# Altium footprint library MCU.PcbLib: 17 footprints (part 1 of 2)
Each footprint in its own frame and in the unit in brackets; x right, y up, seen from the top. Pads: shape width x height; smd on the part's side, far side on the other; paste and mask are expansions set on the pad; w line width, h text height; cw(c..) or ccw(c..) is an arc to the next point about the centre after c.
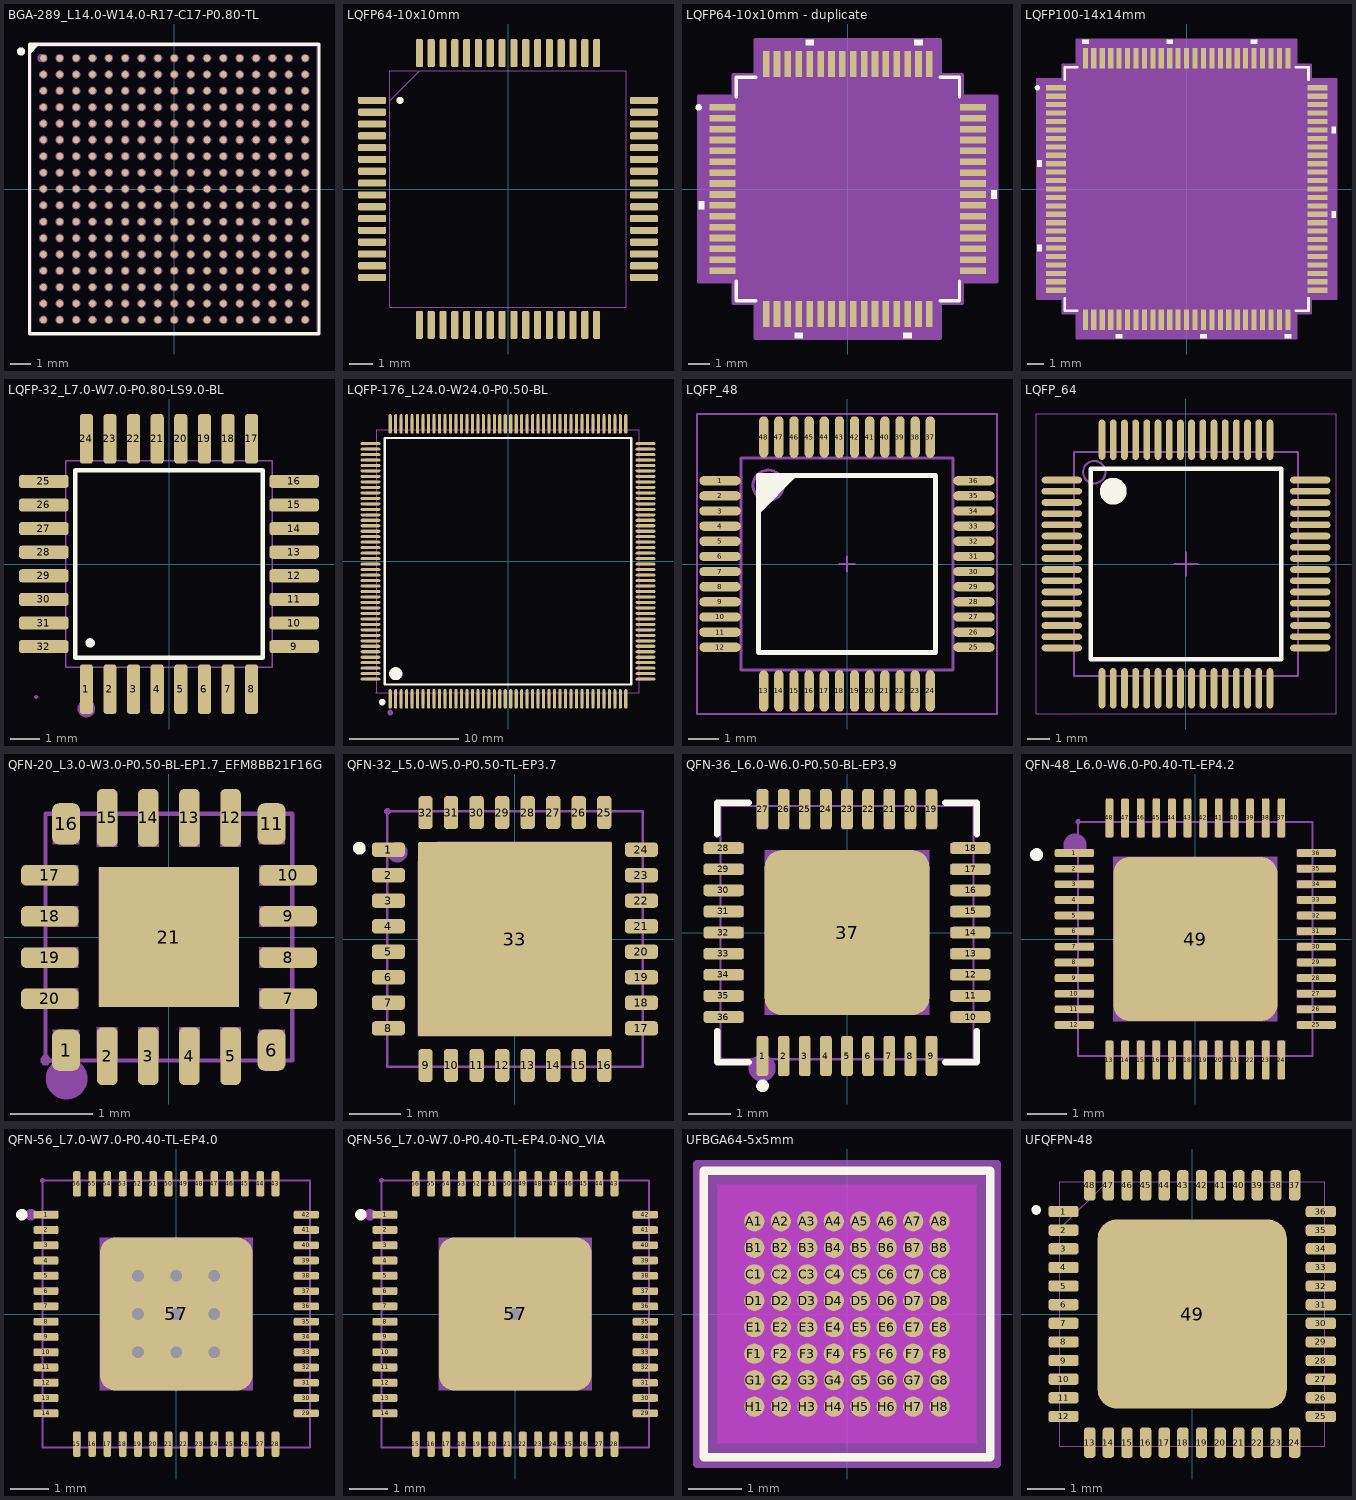
[diagram p0: the footprints below, top view; thin cyan lines are the x and y axes]

## BGA-289_L14.0-W14.0-R17-C17-P0.80-TL [mm]
pads (289):
  round 0.32 smd paste-100 mask+0.05: A1(-6.4,6.4) A2(-5.6,6.4) A3(-4.8,6.4) A4(-4,6.4) A5(-3.2,6.4) A6(-2.4,6.4) A7(-1.6,6.4) A8(-0.8,6.4) A9(0,6.4) A10(0.8,6.4) A11(1.6,6.4) A12(2.4,6.4) A13(3.2,6.4) A14(4,6.4) A15(4.8,6.4) A16(5.6,6.4) A17(6.4,6.4) B1(-6.4,5.6) B2(-5.6,5.6) B3(-4.8,5.6) B4(-4,5.6) B5(-3.2,5.6) B6(-2.4,5.6) B7(-1.6,5.6) B8(-0.8,5.6) B9(0,5.6) B10(0.8,5.6) B11(1.6,5.6) B12(2.4,5.6) B13(3.2,5.6) B14(4,5.6) B15(4.8,5.6) B16(5.6,5.6) B17(6.4,5.6) C1(-6.4,4.8) C2(-5.6,4.8) C3(-4.8,4.8) C4(-4,4.8) C5(-3.2,4.8) C6(-2.4,4.8) C7(-1.6,4.8) C8(-0.8,4.8) C9(0,4.8) C10(0.8,4.8) C11(1.6,4.8) C12(2.4,4.8) C13(3.2,4.8) C14(4,4.8) C15(4.8,4.8) C16(5.6,4.8) C17(6.4,4.8) D1(-6.4,4) D2(-5.6,4) D3(-4.8,4) D4(-4,4) D5(-3.2,4) D6(-2.4,4) D7(-1.6,4) D8(-0.8,4) D9(0,4) D10(0.8,4) D11(1.6,4) D12(2.4,4) D13(3.2,4) D14(4,4) D15(4.8,4) D16(5.6,4) D17(6.4,4) E1(-6.4,3.2) E2(-5.6,3.2) E3(-4.8,3.2) E4(-4,3.2) E5(-3.2,3.2) E6(-2.4,3.2) E7(-1.6,3.2) E8(-0.8,3.2) E9(0,3.2) E10(0.8,3.2) E11(1.6,3.2) E12(2.4,3.2) E13(3.2,3.2) E14(4,3.2) E15(4.8,3.2) E16(5.6,3.2) E17(6.4,3.2) F1(-6.4,2.4) F2(-5.6,2.4) F3(-4.8,2.4) F4(-4,2.4) F5(-3.2,2.4) F6(-2.4,2.4) F7(-1.6,2.4) F8(-0.8,2.4) F9(0,2.4) F10(0.8,2.4) F11(1.6,2.4) F12(2.4,2.4) F13(3.2,2.4) F14(4,2.4) F15(4.8,2.4) F16(5.6,2.4) F17(6.4,2.4) G1(-6.4,1.6) G2(-5.6,1.6) G3(-4.8,1.6) G4(-4,1.6) G5(-3.2,1.6) G6(-2.4,1.6) G7(-1.6,1.6) G8(-0.8,1.6) G9(0,1.6) G10(0.8,1.6) G11(1.6,1.6) G12(2.4,1.6) G13(3.2,1.6) G14(4,1.6) G15(4.8,1.6) G16(5.6,1.6) G17(6.4,1.6) H1(-6.4,0.8) H2(-5.6,0.8) H3(-4.8,0.8) H4(-4,0.8) H5(-3.2,0.8) H6(-2.4,0.8) H7(-1.6,0.8) H8(-0.8,0.8) H9(0,0.8) H10(0.8,0.8) H11(1.6,0.8) H12(2.4,0.8) H13(3.2,0.8) H14(4,0.8) H15(4.8,0.8) H16(5.6,0.8) H17(6.4,0.8) J1(-6.4,0) J2(-5.6,0) J3(-4.8,0) J4(-4,0) J5(-3.2,0) J6(-2.4,0) J7(-1.6,0) J8(-0.8,0) J9(0,0) J10(0.8,0) J11(1.6,0) J12(2.4,0) J13(3.2,0) J14(4,0) J15(4.8,0) J16(5.6,0) J17(6.4,0) K1(-6.4,-0.8) K2(-5.6,-0.8) K3(-4.8,-0.8) K4(-4,-0.8) K5(-3.2,-0.8) K6(-2.4,-0.8) K7(-1.6,-0.8) K8(-0.8,-0.8) K9(0,-0.8) K10(0.8,-0.8) K11(1.6,-0.8) K12(2.4,-0.8) K13(3.2,-0.8) K14(4,-0.8) K15(4.8,-0.8) K16(5.6,-0.8) K17(6.4,-0.8) L1(-6.4,-1.6) L2(-5.6,-1.6) L3(-4.8,-1.6) L4(-4,-1.6) L5(-3.2,-1.6) L6(-2.4,-1.6) L7(-1.6,-1.6) L8(-0.8,-1.6) L9(0,-1.6) L10(0.8,-1.6) L11(1.6,-1.6) L12(2.4,-1.6) L13(3.2,-1.6) L14(4,-1.6) L15(4.8,-1.6) L16(5.6,-1.6) L17(6.4,-1.6) M1(-6.4,-2.4) M2(-5.6,-2.4) M3(-4.8,-2.4) M4(-4,-2.4) M5(-3.2,-2.4) M6(-2.4,-2.4) M7(-1.6,-2.4) M8(-0.8,-2.4) M9(0,-2.4) M10(0.8,-2.4) M11(1.6,-2.4) M12(2.4,-2.4) M13(3.2,-2.4) M14(4,-2.4) M15(4.8,-2.4) M16(5.6,-2.4) M17(6.4,-2.4) N1(-6.4,-3.2) N2(-5.6,-3.2) N3(-4.8,-3.2) N4(-4,-3.2) N5(-3.2,-3.2) N6(-2.4,-3.2) N7(-1.6,-3.2) N8(-0.8,-3.2) N9(0,-3.2) N10(0.8,-3.2) N11(1.6,-3.2) N12(2.4,-3.2) N13(3.2,-3.2) N14(4,-3.2) N15(4.8,-3.2) N16(5.6,-3.2) N17(6.4,-3.2) P1(-6.4,-4) P2(-5.6,-4) P3(-4.8,-4) P4(-4,-4) P5(-3.2,-4) P6(-2.4,-4) P7(-1.6,-4) P8(-0.8,-4) P9(0,-4) P10(0.8,-4) P11(1.6,-4) P12(2.4,-4) P13(3.2,-4) P14(4,-4) P15(4.8,-4) P16(5.6,-4) P17(6.4,-4) R1(-6.4,-4.8) R2(-5.6,-4.8) R3(-4.8,-4.8) R4(-4,-4.8) R5(-3.2,-4.8) R6(-2.4,-4.8) R7(-1.6,-4.8) R8(-0.8,-4.8) R9(0,-4.8) R10(0.8,-4.8) R11(1.6,-4.8) R12(2.4,-4.8) R13(3.2,-4.8) R14(4,-4.8) R15(4.8,-4.8) R16(5.6,-4.8) R17(6.4,-4.8) T1(-6.4,-5.6) T2(-5.6,-5.6) T3(-4.8,-5.6) T4(-4,-5.6) T5(-3.2,-5.6) T6(-2.4,-5.6) T7(-1.6,-5.6) T8(-0.8,-5.6) T9(0,-5.6) T10(0.8,-5.6) T11(1.6,-5.6) T12(2.4,-5.6) T13(3.2,-5.6) T14(4,-5.6) T15(4.8,-5.6) T16(5.6,-5.6) T17(6.4,-5.6) U1(-6.4,-6.4) U2(-5.6,-6.4) U3(-4.8,-6.4) U4(-4,-6.4) U5(-3.2,-6.4) U6(-2.4,-6.4) U7(-1.6,-6.4) U8(-0.8,-6.4) U9(0,-6.4) U10(0.8,-6.4) U11(1.6,-6.4) U12(2.4,-6.4) U13(3.2,-6.4) U14(4,-6.4) U15(4.8,-6.4) U16(5.6,-6.4) U17(6.4,-6.4)
Top Overlay:
  circle w0.2: c-7.493,6.731 r0.1
  region: -6.596,7.076 -7.076,6.596 -7.076,7.076
  lines w0.152: -7.076,-7.076 7.076,-7.076 7.076,7.076 -7.076,7.076 -7.076,-7.076
Top Paste:
  drawing of 289 lines, arcs and shapes, not listed
Mechanical 2:
  circle w0.2: c-6.5,6.4 r0.1
  region: -6.596,7.076 -7.076,6.596 -7.076,7.076
Mechanical 6:
  lines w0.051: -7,-7 7,-7 7,7 -7,7 -7,-7
Mechanical 8:
  region: -6.94,7 -6.94,6.975 -6.975,6.94 -7.025,6.94 -7.06,6.975 -7.06,7 -7.06,7.025 -7.025,7.06 -6.975,7.06 -6.94,7.025 -6.94,7
Mechanical 9:
  drawing of 289 lines, arcs and shapes, not listed

## LQFP64-10x10mm [mm]
pads (64):
  rrect50% 1.194x0.305 smd paste+0 mask+0: 1(-5.75,3.75) 2(-5.75,3.25) 3(-5.75,2.75) 4(-5.75,2.25) 5(-5.75,1.75) 6(-5.75,1.25) 7(-5.75,0.75) 8(-5.75,0.25) 9(-5.75,-0.25) 10(-5.75,-0.75) 11(-5.75,-1.25) 12(-5.75,-1.75) 13(-5.75,-2.25) 14(-5.75,-2.75) 15(-5.75,-3.25) 16(-5.75,-3.75) 33(5.75,-3.75) 34(5.75,-3.25) 35(5.75,-2.75) 36(5.75,-2.25) 37(5.75,-1.75) 38(5.75,-1.25) 39(5.75,-0.75) 40(5.75,-0.25) 41(5.75,0.25) 42(5.75,0.75) 43(5.75,1.25) 44(5.75,1.75) 45(5.75,2.25) 46(5.75,2.75) 47(5.75,3.25) 48(5.75,3.75)
  rrect50% 0.305x1.194 smd paste+0 mask+0: 17(-3.75,-5.75) 18(-3.25,-5.75) 19(-2.75,-5.75) 20(-2.25,-5.75) 21(-1.75,-5.75) 22(-1.25,-5.75) 23(-0.75,-5.75) 24(-0.25,-5.75) 25(0.25,-5.75) 26(0.75,-5.75) 27(1.25,-5.75) 28(1.75,-5.75) 29(2.25,-5.75) 30(2.75,-5.75) 31(3.25,-5.75) 32(3.75,-5.75) 49(3.75,5.75) 50(3.25,5.75) 51(2.75,5.75) 52(2.25,5.75) 53(1.75,5.75) 54(1.25,5.75) 55(0.75,5.75) 56(0.25,5.75) 57(-0.25,5.75) 58(-0.75,5.75) 59(-1.25,5.75) 60(-1.75,5.75) 61(-2.25,5.75) 62(-2.75,5.75) 63(-3.25,5.75) 64(-3.75,5.75)
Top Overlay:
  circle w0.152: c-4.572,3.75 r0.076
Mechanical 13:
  circle w0: c-4.518,3.75 r0.076
  lines w0.025: -5.004,3.734 -3.734,5.004 ; -5.004,-5.004 5.004,-5.004 5.004,5.004 -5.004,5.004 -5.004,-5.004
3D body "LQFP64-10x10mm.step": height 1.6, standoff 0, extent -5.997,-5.997 5.997,5.997

## LQFP64-10x10mm - duplicate [mm]
pads (64):
  rect 1.194x0.305 smd paste+0 mask+0: 1(-5.75,3.75) 2(-5.75,3.25) 3(-5.75,2.75) 4(-5.75,2.25) 5(-5.75,1.75) 6(-5.75,1.25) 7(-5.75,0.75) 8(-5.75,0.25) 9(-5.75,-0.25) 10(-5.75,-0.75) 11(-5.75,-1.25) 12(-5.75,-1.75) 13(-5.75,-2.25) 14(-5.75,-2.75) 15(-5.75,-3.25) 16(-5.75,-3.75) 33(5.75,-3.75) 34(5.75,-3.25) 35(5.75,-2.75) 36(5.75,-2.25) 37(5.75,-1.75) 38(5.75,-1.25) 39(5.75,-0.75) 40(5.75,-0.25) 41(5.75,0.25) 42(5.75,0.75) 43(5.75,1.25) 44(5.75,1.75) 45(5.75,2.25) 46(5.75,2.75) 47(5.75,3.25) 48(5.75,3.75)
  rect 0.305x1.194 smd paste+0 mask+0: 17(-3.75,-5.75) 18(-3.25,-5.75) 19(-2.75,-5.75) 20(-2.25,-5.75) 21(-1.75,-5.75) 22(-1.25,-5.75) 23(-0.75,-5.75) 24(-0.25,-5.75) 25(0.25,-5.75) 26(0.75,-5.75) 27(1.25,-5.75) 28(1.75,-5.75) 29(2.25,-5.75) 30(2.75,-5.75) 31(3.25,-5.75) 32(3.75,-5.75) 49(3.75,5.75) 50(3.25,5.75) 51(2.75,5.75) 52(2.25,5.75) 53(1.75,5.75) 54(1.25,5.75) 55(0.75,5.75) 56(0.25,5.75) 57(-0.25,5.75) 58(-0.75,5.75) 59(-1.25,5.75) 60(-1.75,5.75) 61(-2.25,5.75) 62(-2.75,5.75) 63(-3.25,5.75) 64(-3.75,5.75)
Top Overlay:
  circle w0.152: c-6.851,3.75 r0.076
  region: -1.559,6.601 -1.94,6.601 -1.94,6.855 -1.559,6.855
  region: 3.441,6.601 3.06,6.601 3.06,6.855 3.441,6.855
  region: 6.601,-0.059 6.855,-0.059 6.855,-0.44 6.601,-0.44
  region: 2.94,-6.601 2.559,-6.601 2.559,-6.855 2.94,-6.855
  region: -2.06,-6.601 -2.441,-6.601 -2.441,-6.855 -2.06,-6.855
  region: -6.601,-0.56 -6.855,-0.56 -6.855,-0.941 -6.601,-0.941
  lines w0.152: -5.131,-4.234 -5.131,-5.131 -4.234,-5.131 ; -5.131,4.234 -5.131,5.131 -4.234,5.131 ; 4.234,-5.131 5.131,-5.131 5.131,-4.234 ; 4.234,5.131 5.131,5.131 5.131,4.234
Mechanical 13:
  circle w0: c-4.518,3.75 r0.076
  lines w0.025: -5.004,3.734 -3.734,5.004 ; -5.004,-5.004 -5.004,5.004 5.004,5.004 5.004,-5.004 -5.004,-5.004
Mechanical 15:
  region: -4.258,-5.258 -5.258,-5.258 -5.258,-4.258 -6.855,-4.258 -6.855,4.258 -5.258,4.258 -5.258,5.258 -4.258,5.258 -4.258,6.855 4.258,6.855 4.258,5.258 5.258,5.258 5.258,4.258 6.855,4.258 6.855,-4.258 5.258,-4.258 5.258,-5.258 4.258,-5.258 4.258,-6.855 -4.258,-6.855
  lines w0.152: -6.855,-4.258 -6.855,4.258 -5.258,4.258 -5.258,5.258 -4.258,5.258 -4.258,6.855 4.258,6.855 4.258,5.258 5.258,5.258 5.258,4.258 6.855,4.258 6.855,-4.258 5.258,-4.258 5.258,-5.258 4.258,-5.258 4.258,-6.855 -4.258,-6.855 -4.258,-5.258 -5.258,-5.258 -5.258,-4.258 -6.855,-4.258
3D body "LQFP64-10x10mm.step": height 1.6, standoff 0, extent -5.997,-5.997 5.997,5.997

## LQFP100-14x14mm [mil]
pads (100):
  rect 47x12 smd paste+0 mask+0: 1(-305.12,236.22) 2(-305.12,216.54) 3(-305.12,196.85) 4(-305.12,177.17) 5(-305.12,157.48) 6(-305.12,137.8) 7(-305.12,118.11) 8(-305.12,98.43) 9(-305.12,78.74) 10(-305.12,59.06) 11(-305.12,39.37) 12(-305.12,19.69) 13(-305.12,0) 14(-305.12,-19.68) 15(-305.12,-39.37) 16(-305.12,-59.06) 17(-305.12,-78.74) 18(-305.12,-98.43) 19(-305.12,-118.11) 20(-305.12,-137.8) 21(-305.12,-157.48) 22(-305.12,-177.17) 23(-305.12,-196.85) 24(-305.12,-216.54) 25(-305.12,-236.22) 51(305.12,-236.22) 52(305.12,-216.54) 53(305.12,-196.85) 54(305.12,-177.17) 55(305.12,-157.48) 56(305.12,-137.8) 57(305.12,-118.11) 58(305.12,-98.43) 59(305.12,-78.74) 60(305.12,-59.06) 61(305.12,-39.37) 62(305.12,-19.68) 63(305.12,0) 64(305.12,19.68) 65(305.12,39.37) 66(305.12,59.06) 67(305.12,78.74) 68(305.12,98.43) 69(305.12,118.11) 70(305.12,137.8) 71(305.12,157.48) 72(305.12,177.17) 73(305.12,196.85) 74(305.12,216.54) 75(305.12,236.22)
  rect 12x47 smd paste+0 mask+0: 26(-236.22,-305.12) 27(-216.54,-305.12) 28(-196.85,-305.12) 29(-177.17,-305.12) 30(-157.48,-305.12) 31(-137.8,-305.12) 32(-118.11,-305.12) 33(-98.43,-305.12) 34(-78.74,-305.12) 35(-59.06,-305.12) 36(-39.37,-305.12) 37(-19.68,-305.12) 38(0,-305.12) 39(19.68,-305.12) 40(39.37,-305.12) 41(59.06,-305.12) 42(78.74,-305.12) 43(98.43,-305.12) 44(118.11,-305.12) 45(137.8,-305.12) 46(157.48,-305.12) 47(177.17,-305.12) 48(196.85,-305.12) 49(216.54,-305.12) 50(236.22,-305.12) 76(236.22,305.12) 77(216.54,305.12) 78(196.85,305.12) 79(177.17,305.12) 80(157.48,305.12) 81(137.8,305.12) 82(118.11,305.12) 83(98.43,305.12) 84(78.74,305.12) 85(59.06,305.12) 86(39.37,305.12) 87(19.68,305.12) 88(0,305.12) 89(-19.68,305.12) 90(-39.37,305.12) 91(-59.06,305.12) 92(-78.74,305.12) 93(-98.43,305.12) 94(-118.11,305.12) 95(-137.8,305.12) 96(-157.48,305.12) 97(-177.17,305.12) 98(-196.85,305.12) 99(-216.54,305.12) 100(-236.22,305.12)
Top Overlay:
  circle w6: c-348.46,236.22 r3
  region: -338.62,66.56 -348.62,66.56 -348.62,51.56 -338.62,51.56
  region: -338.62,-130.3 -348.62,-130.3 -348.62,-145.3 -338.62,-145.3
  region: -149.98,-338.62 -164.98,-338.62 -164.98,-348.62 -149.98,-348.62
  region: 46.87,-338.62 31.87,-338.62 31.87,-348.62 46.87,-348.62
  region: 243.72,-338.62 228.72,-338.62 228.72,-348.62 243.72,-348.62
  region: 338.62,-51.56 348.62,-51.56 348.62,-66.56 338.62,-66.56
  region: 338.62,145.3 348.62,145.3 348.62,130.3 338.62,130.3
  region: 164.98,338.62 149.98,338.62 149.98,348.62 164.98,348.62
  region: -31.87,338.62 -46.87,338.62 -46.87,348.62 -31.87,348.62
  region: -228.72,338.62 -243.72,338.62 -243.72,348.62 -228.72,348.62
  lines w6: -284.5,-255.32 -284.5,-284.5 -255.32,-284.5 ; -284.5,255.32 -284.5,284.5 -255.32,284.5 ; 255.32,-284.5 284.5,-284.5 284.5,-255.32 ; 255.32,284.5 284.5,284.5 284.5,255.32
Mechanical 13:
  circle w0: c-256.62,236.22 r3
  lines w1: -279.5,229.5 -229.5,279.5 ; -279.5,-279.5 279.5,-279.5 279.5,279.5 -279.5,279.5 -279.5,-279.5
Mechanical 15:
  region: -256.22,-289.5 -289.5,-289.5 -289.5,-256.22 -348.62,-256.22 -348.62,256.22 -289.5,256.22 -289.5,289.5 -256.22,289.5 -256.22,348.62 256.22,348.62 256.22,289.5 289.5,289.5 289.5,256.22 348.62,256.22 348.62,-256.22 289.5,-256.22 289.5,-289.5 256.22,-289.5 256.22,-348.62 -256.22,-348.62
  lines w6: -348.62,-256.22 -289.5,-256.22 -289.5,-289.5 -256.22,-289.5 -256.22,-348.62 256.22,-348.62 256.22,-289.5 289.5,-289.5 289.5,-256.22 348.62,-256.22 348.62,256.22 289.5,256.22 289.5,289.5 256.22,289.5 256.22,348.62 -256.22,348.62 -256.22,289.5 -289.5,289.5 -289.5,256.22 -348.62,256.22 -348.62,-256.22
3D body "LQFP100-14x14mm.step": height 63.11, standoff 0, extent -314.84,-314.84 314.84,314.84

## LQFP-32_L7.0-W7.0-P0.80-LS9.0-BL [mm]
pads (32):
  rrect50% 0.448x1.684 smd mask+0.051: 1(-2.8,-4.242) 2(-2,-4.242) 3(-1.2,-4.242) 4(-0.4,-4.242) 5(0.4,-4.242) 6(1.2,-4.242) 7(2,-4.242) 8(2.8,-4.242) 17(2.8,4.242) 18(2,4.242) 19(1.2,4.242) 20(0.4,4.242) 21(-0.4,4.242) 22(-1.2,4.242) 23(-2,4.242) 24(-2.8,4.242)
  rrect50% 1.684x0.448 smd mask+0.051: 9(4.242,-2.8) 10(4.242,-2) 11(4.242,-1.2) 12(4.242,-0.4) 13(4.242,0.4) 14(4.242,1.2) 15(4.242,2) 16(4.242,2.8) 25(-4.242,2.8) 26(-4.242,2) 27(-4.242,1.2) 28(-4.242,0.4) 29(-4.242,-0.4) 30(-4.242,-1.2) 31(-4.242,-2) 32(-4.242,-2.8)
Top Overlay:
  circle w0.3: c-2.671,-2.671 r0.006
  lines w0.152: -3.171,-3.171 -3.171,3.171 3.171,3.171 3.171,-3.171 -3.171,-3.171
Mechanical 6:
  circle w0.3: c-2.8,-4.9 r0.15
Mechanical 15:
  drawing of 69 lines, arcs and shapes, not listed
3D body "ATmega_AP214.STEP": height 1, standoff -0.1, extent -4.498,-4.498 4.498,4.498

## LQFP-176_L24.0-W24.0-P0.50-BL [mm]
pads (176):
  oval 0.28x1.8 smd paste+0 mask+0.051: 1(-10.75,-12.55) 2(-10.25,-12.55) 3(-9.75,-12.55) 4(-9.25,-12.55) 5(-8.75,-12.55) 6(-8.25,-12.55) 7(-7.75,-12.55) 8(-7.25,-12.55) 9(-6.75,-12.55) 10(-6.25,-12.55) 11(-5.75,-12.55) 12(-5.25,-12.55) 13(-4.75,-12.55) 14(-4.25,-12.55) 15(-3.75,-12.55) 16(-3.25,-12.55) 17(-2.75,-12.55) 18(-2.25,-12.55) 19(-1.75,-12.55) 20(-1.25,-12.55) 21(-0.75,-12.55) 22(-0.25,-12.55) 23(0.25,-12.55) 24(0.75,-12.55) 25(1.25,-12.55) 26(1.75,-12.55) 27(2.25,-12.55) 28(2.75,-12.55) 29(3.25,-12.55) 30(3.75,-12.55) 31(4.25,-12.55) 32(4.75,-12.55) 33(5.25,-12.55) 34(5.75,-12.55) 35(6.25,-12.55) 36(6.75,-12.55) 37(7.25,-12.55) 38(7.75,-12.55) 39(8.25,-12.55) 40(8.75,-12.55) 41(9.25,-12.55) 42(9.75,-12.55) 43(10.25,-12.55) 44(10.75,-12.55) 89(10.75,12.55) 90(10.25,12.55) 91(9.75,12.55) 92(9.25,12.55) 93(8.75,12.55) 94(8.25,12.55) 95(7.75,12.55) 96(7.25,12.55) 97(6.75,12.55) 98(6.25,12.55) 99(5.75,12.55) 100(5.25,12.55) 101(4.75,12.55) 102(4.25,12.55) 103(3.75,12.55) 104(3.25,12.55) 105(2.75,12.55) 106(2.25,12.55) 107(1.75,12.55) 108(1.25,12.55) 109(0.75,12.55) 110(0.25,12.55) 111(-0.25,12.55) 112(-0.75,12.55) 113(-1.25,12.55) 114(-1.75,12.55) 115(-2.25,12.55) 116(-2.75,12.55) 117(-3.25,12.55) 118(-3.75,12.55) 119(-4.25,12.55) 120(-4.75,12.55) 121(-5.25,12.55) 122(-5.75,12.55) 123(-6.25,12.55) 124(-6.75,12.55) 125(-7.25,12.55) 126(-7.75,12.55) 127(-8.25,12.55) 128(-8.75,12.55) 129(-9.25,12.55) 130(-9.75,12.55) 131(-10.25,12.55) 132(-10.75,12.55)
  oval 1.8x0.28 smd paste+0 mask+0.051: 45(12.55,-10.75) 46(12.55,-10.25) 47(12.55,-9.75) 48(12.55,-9.25) 49(12.55,-8.75) 50(12.55,-8.25) 51(12.55,-7.75) 52(12.55,-7.25) 53(12.55,-6.75) 54(12.55,-6.25) 55(12.55,-5.75) 56(12.55,-5.25) 57(12.55,-4.75) 58(12.55,-4.25) 59(12.55,-3.75) 60(12.55,-3.25) 61(12.55,-2.75) 62(12.55,-2.25) 63(12.55,-1.75) 64(12.55,-1.25) 65(12.55,-0.75) 66(12.55,-0.25) 67(12.55,0.25) 68(12.55,0.75) 69(12.55,1.25) 70(12.55,1.75) 71(12.55,2.25) 72(12.55,2.75) 73(12.55,3.25) 74(12.55,3.75) 75(12.55,4.25) 76(12.55,4.75) 77(12.55,5.25) 78(12.55,5.75) 79(12.55,6.25) 80(12.55,6.75) 81(12.55,7.25) 82(12.55,7.75) 83(12.55,8.25) 84(12.55,8.75) 85(12.55,9.25) 86(12.55,9.75) 87(12.55,10.25) 88(12.55,10.75) 133(-12.55,10.75) 134(-12.55,10.25) 135(-12.55,9.75) 136(-12.55,9.25) 137(-12.55,8.75) 138(-12.55,8.25) 139(-12.55,7.75) 140(-12.55,7.25) 141(-12.55,6.75) 142(-12.55,6.25) 143(-12.55,5.75) 144(-12.55,5.25) 145(-12.55,4.75) 146(-12.55,4.25) 147(-12.55,3.75) 148(-12.55,3.25) 149(-12.55,2.75) 150(-12.55,2.25) 151(-12.55,1.75) 152(-12.55,1.25) 153(-12.55,0.75) 154(-12.55,0.25) 155(-12.55,-0.25) 156(-12.55,-0.75) 157(-12.55,-1.25) 158(-12.55,-1.75) 159(-12.55,-2.25) 160(-12.55,-2.75) 161(-12.55,-3.25) 162(-12.55,-3.75) 163(-12.55,-4.25) 164(-12.55,-4.75) 165(-12.55,-5.25) 166(-12.55,-5.75) 167(-12.55,-6.25) 168(-12.55,-6.75) 169(-12.55,-7.25) 170(-12.55,-7.75) 171(-12.55,-8.25) 172(-12.55,-8.75) 173(-12.55,-9.25) 174(-12.55,-9.75) 175(-12.55,-10.25) 176(-12.55,-10.75)
Top Overlay:
  lines w0.2: -11.25,-11.25 -11.25,11.25 11.25,11.25 11.25,-11.25 -11.25,-11.25
  lines w0.3: -11.481,-12.697 ccw(c-11.48,-12.847) -11.479,-12.697
  lines w0.6: -10.249,-9.949 ccw(c-10.246,-10.249) -10.244,-9.949
Mechanical 6:
  circle w0.254: c-10.759,-13.8 r0.131
Mechanical 15:
  drawing of 357 lines, arcs and shapes, not listed

## LQFP_48 [mil] "LQFP_48"
height 62.99
pads (48):
  oval 54x12 smd: 1(-165,108.27) 2(-165,88.58) 3(-165,68.9) 4(-165,49.21) 5(-165,29.53) 6(-165,9.84) 7(-165,-9.84) 8(-165,-29.53) 9(-165,-49.21) 10(-165,-68.9) 11(-165,-88.58) 12(-165,-108.27) 25(165,-108.27) 26(165,-88.58) 27(165,-68.9) 28(165,-49.21) 29(165,-29.53) 30(165,-9.84) 31(165,9.84) 32(165,29.53) 33(165,49.21) 34(165,68.9) 35(165,88.58) 36(165,108.27)
  oval 12x54 smd: 13(-108.27,-165) 14(-88.58,-165) 15(-68.9,-165) 16(-49.21,-165) 17(-29.53,-165) 18(-9.84,-165) 19(9.84,-165) 20(29.53,-165) 21(49.21,-165) 22(68.9,-165) 23(88.58,-165) 24(108.27,-165) 37(108.27,165) 38(88.58,165) 39(68.9,165) 40(49.21,165) 41(29.53,165) 42(9.84,165) 43(-9.84,165) 44(-29.53,165) 45(-49.21,165) 46(-68.9,165) 47(-88.58,165) 48(-108.27,165)
Top Overlay:
  region: -115,115 -65,115 -115,65
  lines w6: -115,-115 -115,115 115,115 115,-115 -115,-115
Mechanical 13:
  circle w3.94: c-102.36,102.36 r19.68
  lines w2: -10,0 10,0 ; 0,-10 0,10
  lines w3.94: -137.8,-137.8 -137.8,137.8 137.8,137.8 137.8,-137.8 -137.8,-137.8
Mechanical 14:
  lines w2: -195,-195 195,-195 195,195 -195,195 -195,-195
3D body "SW3dPS-Quad50M48.STEP": height 61.42, standoff 0, extent -177.16,-177.16 177.17,177.17

## LQFP_64 [mm] "LQFP_64_N"
pads (64):
  oval 1.8x0.3 smd: 1(-5.55,3.75) 2(-5.55,3.25) 3(-5.55,2.75) 4(-5.55,2.25) 5(-5.55,1.75) 6(-5.55,1.25) 7(-5.55,0.75) 8(-5.55,0.25) 9(-5.55,-0.25) 10(-5.55,-0.75) 11(-5.55,-1.25) 12(-5.55,-1.75) 13(-5.55,-2.25) 14(-5.55,-2.75) 15(-5.55,-3.25) 16(-5.55,-3.75) 33(5.55,-3.75) 34(5.55,-3.25) 35(5.55,-2.75) 36(5.55,-2.25) 37(5.55,-1.75) 38(5.55,-1.25) 39(5.55,-0.75) 40(5.55,-0.25) 41(5.55,0.25) 42(5.55,0.75) 43(5.55,1.25) 44(5.55,1.75) 45(5.55,2.25) 46(5.55,2.75) 47(5.55,3.25) 48(5.55,3.75)
  oval 0.3x1.8 smd: 17(-3.75,-5.55) 18(-3.25,-5.55) 19(-2.75,-5.55) 20(-2.25,-5.55) 21(-1.75,-5.55) 22(-1.25,-5.55) 23(-0.75,-5.55) 24(-0.25,-5.55) 25(0.25,-5.55) 26(0.75,-5.55) 27(1.25,-5.55) 28(1.75,-5.55) 29(2.25,-5.55) 30(2.75,-5.55) 31(3.25,-5.55) 32(3.75,-5.55) 49(3.75,5.55) 50(3.25,5.55) 51(2.75,5.55) 52(2.25,5.55) 53(1.75,5.55) 54(1.25,5.55) 55(0.75,5.55) 56(0.25,5.55) 57(-0.25,5.55) 58(-0.75,5.55) 59(-1.25,5.55) 60(-1.75,5.55) 61(-2.25,5.55) 62(-2.75,5.55) 63(-3.25,5.55) 64(-3.75,5.55)
Top Overlay:
  circle w0.6: c-3.25,3.25 r0.3
  lines w0.2: -4.25,-4.25 4.25,-4.25 4.25,4.25 -4.25,4.25 -4.25,-4.25
Mechanical 13:
  circle w0.1: c-4.1,4.1 r0.5
  lines w0.1: -5,-5 5,-5 5,5 -5,5 -5,-5
Mechanical 15:
  lines w0.05: -6.7,-6.7 6.7,-6.7 6.7,6.7 -6.7,6.7 -6.7,-6.7
  lines w0.1: -0.5,0 0.5,0 ; 0,-0.5 0,0.5
3D body "PCB1.stp": height 1.6, standoff 0.04, extent -5.991,-5.991 5.983,5.983

## QFN-20_L3.0-W3.0-P0.50-BL-EP1.7_EFM8BB21F16G [mm]
pads (21):
  rrect50% 0.34x0.5 smd mask+0.05: 1(-1.252,-1.377) 6(1.249,-1.377) 11(1.249,1.377) 16(-1.252,1.377)
  rrect50% 0.25x0.7 smd mask+0.05: 2(-0.751,-1.45) 3(-0.252,-1.45) 4(0.249,-1.45) 5(0.748,-1.45) 12(0.748,1.45) 13(0.249,1.45) 14(-0.252,1.45) 15(-0.751,1.45)
  rrect50% 0.7x0.25 smd mask+0.05: 7(1.451,-0.75) 8(1.451,-0.25) 9(1.451,0.25) 10(1.451,0.75) 17(-1.451,0.75) 18(-1.451,0.25) 19(-1.451,-0.25) 20(-1.451,-0.75)
  rect 1.7x1.7 smd mask+0.05: 21(-0.001,0)
Mechanical 6:
  circle w0.254: c-1.245,-1.721 r0.127
Mechanical 15:
  region: -1.442,-1.5 -1.442,-1.475 -1.477,-1.44 -1.526,-1.44 -1.562,-1.475 -1.562,-1.5 -1.562,-1.525 -1.526,-1.56 -1.477,-1.56 -1.442,-1.525 -1.442,-1.5
  region: -0.852,0.85 0.848,0.85 0.848,-0.85 -0.852,-0.85
  region: -1.412,1.449 -1.092,1.449 -1.092,1.129 -1.412,1.129
  region: -1.412,-1.129 -1.092,-1.129 -1.092,-1.449 -1.412,-1.449
  region: 1.089,1.449 1.409,1.449 1.409,1.129 1.089,1.129
  region: 1.089,-1.129 1.409,-1.129 1.409,-1.449 1.089,-1.449
  region: -1.502,-0.625 -1.102,-0.625 -1.102,-0.875 -1.502,-0.875
  region: -1.502,-0.125 -1.102,-0.125 -1.102,-0.375 -1.502,-0.375
  region: -1.502,0.375 -1.102,0.375 -1.102,0.125 -1.502,0.125
  region: -1.502,0.875 -1.102,0.875 -1.102,0.625 -1.502,0.625
  region: -0.876,1.5 -0.626,1.5 -0.626,1.1 -0.876,1.1
  region: -0.377,1.5 -0.127,1.5 -0.127,1.1 -0.377,1.1
  region: 0.124,1.5 0.374,1.5 0.374,1.1 0.124,1.1
  region: 0.623,1.5 0.873,1.5 0.873,1.1 0.623,1.1
  region: 1.098,0.875 1.498,0.875 1.498,0.625 1.098,0.625
  region: 1.098,0.375 1.498,0.375 1.498,0.125 1.098,0.125
  region: 1.098,-0.125 1.498,-0.125 1.498,-0.375 1.098,-0.375
  region: 1.098,-0.625 1.498,-0.625 1.498,-0.875 1.098,-0.875
  region: 0.623,-1.1 0.873,-1.1 0.873,-1.5 0.623,-1.5
  region: 0.124,-1.1 0.374,-1.1 0.374,-1.5 0.124,-1.5
  region: -0.377,-1.1 -0.127,-1.1 -0.127,-1.5 -0.377,-1.5
  region: -0.876,-1.1 -0.626,-1.1 -0.626,-1.5 -0.876,-1.5
  lines w0.051: -1.502,-1.5 1.498,-1.5 1.498,1.5 -1.502,1.5 -1.502,-1.5
3D body "qfn201real.step": height 0.82, standoff 0, extent -1.511,-1.5 1.508,1.52

## QFN-32_L5.0-W5.0-P0.50-TL-EP3.7 [mm]
pads (33):
  rrect50% 0.65x0.28 smd paste-100 mask+0.051: 1(-2.478,1.75) 2(-2.478,1.25) 3(-2.478,0.75) 4(-2.478,0.25) 5(-2.478,-0.25) 6(-2.478,-0.75) 7(-2.478,-1.25) 8(-2.478,-1.75) 17(2.478,-1.75) 18(2.478,-1.25) 19(2.478,-0.75) 20(2.478,-0.25) 21(2.478,0.25) 22(2.478,0.75) 23(2.478,1.25) 24(2.478,1.75)
  rrect50% 0.28x0.65 smd paste-100 mask+0.051: 9(-1.75,-2.478) 10(-1.25,-2.478) 11(-0.75,-2.478) 12(-0.25,-2.478) 13(0.25,-2.478) 14(0.75,-2.478) 15(1.25,-2.478) 16(1.75,-2.478) 25(1.75,2.478) 26(1.25,2.478) 27(0.75,2.478) 28(0.25,2.478) 29(-0.25,2.478) 30(-0.75,2.478) 31(-1.25,2.478) 32(-1.75,2.478)
  rrect2% 3.8x3.8 smd paste-100 mask+0.051: 33(0,0)
Top Overlay:
  circle w0.2: c-3.048,1.778 r0.025
Top Paste:
  drawing of 33 lines, arcs and shapes, not listed
Mechanical 6:
  circle w0.2: c-2.3,1.7 r0.1
Mechanical 15:
  drawing of 38 lines, arcs and shapes, not listed

## QFN-36_L6.0-W6.0-P0.50-BL-EP3.9 [mm]
pads (37):
  rrect50% 0.28x0.95 smd paste-100 mask+0.051: 1(-2,-2.925) 2(-1.5,-2.925) 3(-1,-2.925) 4(-0.5,-2.925) 5(0,-2.925) 6(0.5,-2.925) 7(1,-2.925) 8(1.5,-2.925) 9(2,-2.925) 19(2,2.925) 20(1.5,2.925) 21(1,2.925) 22(0.5,2.925) 23(0,2.925) 24(-0.5,2.925) 25(-1,2.925) 26(-1.5,2.925) 27(-2,2.925)
  rrect50% 0.95x0.28 smd paste-100 mask+0.051: 10(2.925,-2) 11(2.925,-1.5) 12(2.925,-1) 13(2.925,-0.5) 14(2.925,0) 15(2.925,0.5) 16(2.925,1) 17(2.925,1.5) 18(2.925,2) 28(-2.925,2) 29(-2.925,1.5) 30(-2.925,1) 31(-2.925,0.5) 32(-2.925,0) 33(-2.925,-0.5) 34(-2.925,-1) 35(-2.925,-1.5) 36(-2.925,-2)
  rrect20% 3.9x3.9 smd paste-100 mask+0.051: 37(0,0)
Top Overlay:
  circle w0.15: c-2,-3.63 r0.075
  lines w0.152: -3.076,-2.331 -3.076,-3.076 -2.331,-3.076 ; -3.076,2.331 -3.076,3.076 -2.331,3.076 ; 2.331,-3.076 3.076,-3.076 3.076,-2.331 ; 2.331,3.076 3.076,3.076 3.076,2.331
Top Paste:
  drawing of 37 lines, arcs and shapes, not listed
Mechanical 6:
  circle w0.32: c-2.01,-3.21 r0.16
Mechanical 15:
  drawing of 42 lines, arcs and shapes, not listed

## QFN-48_L6.0-W6.0-P0.40-TL-EP4.2 [mm]
pads (49):
  rrect50% 1x0.2 smd paste-100 mask+0.05: 1(-3.1,2.2) 2(-3.1,1.8) 3(-3.1,1.4) 4(-3.1,1) 5(-3.1,0.6) 6(-3.1,0.2) 7(-3.1,-0.2) 8(-3.1,-0.6) 9(-3.1,-1) 10(-3.1,-1.4) 11(-3.1,-1.8) 12(-3.1,-2.2) 25(3.1,-2.2) 26(3.1,-1.8) 27(3.1,-1.4) 28(3.1,-1) 29(3.1,-0.6) 30(3.1,-0.2) 31(3.1,0.2) 32(3.1,0.6) 33(3.1,1) 34(3.1,1.4) 35(3.1,1.8) 36(3.1,2.2)
  rrect50% 0.2x1 smd paste-100 mask+0.05: 13(-2.2,-3.1) 14(-1.8,-3.1) 15(-1.4,-3.1) 16(-1,-3.1) 17(-0.6,-3.1) 18(-0.2,-3.1) 19(0.2,-3.1) 20(0.6,-3.1) 21(1,-3.1) 22(1.4,-3.1) 23(1.8,-3.1) 24(2.2,-3.1) 37(2.2,3.1) 38(1.8,3.1) 39(1.4,3.1) 40(1,3.1) 41(0.6,3.1) 42(0.2,3.1) 43(-0.2,3.1) 44(-0.6,3.1) 45(-1,3.1) 46(-1.4,3.1) 47(-1.8,3.1) 48(-2.2,3.1)
  rrect20% 4.2x4.2 smd paste-100 mask+0.05: 49(0,0)
Top Overlay:
  lines w0.3: -4.049,2.158 cw(c-4.064,2.159) -4.049,2.16
Top Paste:
  drawing of 49 lines, arcs and shapes, not listed
Mechanical 2:
  circle w0.3: c-3.08,2.4 r0.15
Mechanical 6:
  lines w0.051: -3,-3 3,-3 3,3 -3,3 -3,-3
Mechanical 8:
  region: -2.94,3 -2.94,2.975 -2.975,2.94 -3.025,2.94 -3.06,2.975 -3.06,3 -3.06,3.025 -3.025,3.06 -2.975,3.06 -2.94,3.025 -2.94,3
Mechanical 9:
  drawing of 49 lines, arcs and shapes, not listed

## QFN-56_L7.0-W7.0-P0.40-TL-EP4.0 [mm]
pads (57):
  rrect50% 0.665x0.2 smd paste-100 mask+0.051: 1(-3.408,2.6) 2(-3.408,2.2) 3(-3.408,1.8) 4(-3.408,1.4) 5(-3.408,1) 6(-3.408,0.6) 7(-3.408,0.2) 8(-3.408,-0.2) 9(-3.408,-0.6) 10(-3.408,-1) 11(-3.408,-1.4) 12(-3.408,-1.8) 13(-3.408,-2.2) 14(-3.408,-2.6) 29(3.408,-2.6) 30(3.408,-2.2) 31(3.408,-1.8) 32(3.408,-1.4) 33(3.408,-1) 34(3.408,-0.6) 35(3.408,-0.2) 36(3.408,0.2) 37(3.408,0.6) 38(3.408,1) 39(3.408,1.4) 40(3.408,1.8) 41(3.408,2.2) 42(3.408,2.6)
  rrect50% 0.2x0.665 smd paste-100 mask+0.051: 15(-2.6,-3.408) 16(-2.2,-3.408) 17(-1.8,-3.408) 18(-1.4,-3.408) 19(-1,-3.408) 20(-0.6,-3.408) 21(-0.2,-3.408) 22(0.2,-3.408) 23(0.6,-3.408) 24(1,-3.408) 25(1.4,-3.408) 26(1.8,-3.408) 27(2.2,-3.408) 28(2.6,-3.408) 43(2.6,3.408) 44(2.2,3.408) 45(1.8,3.408) 46(1.4,3.408) 47(1,3.408) 48(0.6,3.408) 49(0.2,3.408) 50(-0.2,3.408) 51(-0.6,3.408) 52(-1,3.408) 53(-1.4,3.408) 54(-1.8,3.408) 55(-2.2,3.408) 56(-2.6,3.408)
  rrect20% 4x4 smd paste-100 mask+0.051: 57(0,0)
via 0,1 diameter 0.61 hole 0.305
via 0.001,-1 diameter 0.61 hole 0.305
via 0,0 diameter 0.61 hole 0.305
via -1,-1 diameter 0.61 hole 0.305
via 1,-1 diameter 0.61 hole 0.305
via -1,1 diameter 0.61 hole 0.305
via -1,0 diameter 0.61 hole 0.305
via 1,1 diameter 0.61 hole 0.305
via 1,0 diameter 0.61 hole 0.305
Top Overlay:
  circle w0.15: c-4.04,2.6 r0.075
Top Paste:
  drawing of 57 lines, arcs and shapes, not listed
Mechanical 6:
  circle w0.15: c-3.8,2.6 r0.075
Mechanical 15:
  drawing of 62 lines, arcs and shapes, not listed
3D body "User Library-QFN56_0_4.STEP": height 0.9, standoff 0, extent -3.505,-3.505 3.505,3.505

## QFN-56_L7.0-W7.0-P0.40-TL-EP4.0-NO_VIA [mm]
pads (57):
  rrect50% 0.665x0.2 smd paste-100 mask+0.051: 1(-3.408,2.6) 2(-3.408,2.2) 3(-3.408,1.8) 4(-3.408,1.4) 5(-3.408,1) 6(-3.408,0.6) 7(-3.408,0.2) 8(-3.408,-0.2) 9(-3.408,-0.6) 10(-3.408,-1) 11(-3.408,-1.4) 12(-3.408,-1.8) 13(-3.408,-2.2) 14(-3.408,-2.6) 29(3.408,-2.6) 30(3.408,-2.2) 31(3.408,-1.8) 32(3.408,-1.4) 33(3.408,-1) 34(3.408,-0.6) 35(3.408,-0.2) 36(3.408,0.2) 37(3.408,0.6) 38(3.408,1) 39(3.408,1.4) 40(3.408,1.8) 41(3.408,2.2) 42(3.408,2.6)
  rrect50% 0.2x0.665 smd paste-100 mask+0.051: 15(-2.6,-3.408) 16(-2.2,-3.408) 17(-1.8,-3.408) 18(-1.4,-3.408) 19(-1,-3.408) 20(-0.6,-3.408) 21(-0.2,-3.408) 22(0.2,-3.408) 23(0.6,-3.408) 24(1,-3.408) 25(1.4,-3.408) 26(1.8,-3.408) 27(2.2,-3.408) 28(2.6,-3.408) 43(2.6,3.408) 44(2.2,3.408) 45(1.8,3.408) 46(1.4,3.408) 47(1,3.408) 48(0.6,3.408) 49(0.2,3.408) 50(-0.2,3.408) 51(-0.6,3.408) 52(-1,3.408) 53(-1.4,3.408) 54(-1.8,3.408) 55(-2.2,3.408) 56(-2.6,3.408)
  rrect20% 4x4 smd paste-100 mask+0.051: 57(0,0)
via 0,0 diameter 0.61 hole 0.305
Top Overlay:
  circle w0.15: c-4.04,2.6 r0.075
Top Paste:
  drawing of 57 lines, arcs and shapes, not listed
Mechanical 6:
  circle w0.15: c-3.8,2.6 r0.075
Mechanical 15:
  drawing of 62 lines, arcs and shapes, not listed
3D body "User Library-QFN56_0_4.STEP": height 0.9, standoff 0, extent -3.505,-3.505 3.505,3.505

## UFBGA64-5x5mm [mm]
pads (64):
  round 0.381 smd paste+0 mask+0: A1(-1.75,1.75) A2(-1.25,1.75) A3(-0.75,1.75) A4(-0.25,1.75) A5(0.25,1.75) A6(0.75,1.75) A7(1.25,1.75) A8(1.75,1.75) B1(-1.75,1.25) B2(-1.25,1.25) B3(-0.75,1.25) B4(-0.25,1.25) B5(0.25,1.25) B6(0.75,1.25) B7(1.25,1.25) B8(1.75,1.25) C1(-1.75,0.75) C2(-1.25,0.75) C3(-0.75,0.75) C4(-0.25,0.75) C5(0.25,0.75) C6(0.75,0.75) C7(1.25,0.75) C8(1.75,0.75) D1(-1.75,0.25) D2(-1.25,0.25) D3(-0.75,0.25) D4(-0.25,0.25) D5(0.25,0.25) D6(0.75,0.25) D7(1.25,0.25) D8(1.75,0.25) E1(-1.75,-0.25) E2(-1.25,-0.25) E3(-0.75,-0.25) E4(-0.25,-0.25) E5(0.25,-0.25) E6(0.75,-0.25) E7(1.25,-0.25) E8(1.75,-0.25) F1(-1.75,-0.75) F2(-1.25,-0.75) F3(-0.75,-0.75) F4(-0.25,-0.75) F5(0.25,-0.75) F6(0.75,-0.75) F7(1.25,-0.75) F8(1.75,-0.75) G1(-1.75,-1.25) G2(-1.25,-1.25) G3(-0.75,-1.25) G4(-0.25,-1.25) G5(0.25,-1.25) G6(0.75,-1.25) G7(1.25,-1.25) G8(1.75,-1.25) H1(-1.75,-1.75) H2(-1.25,-1.75) H3(-0.75,-1.75) H4(-0.25,-1.75) H5(0.25,-1.75) H6(0.75,-1.75) H7(1.25,-1.75) H8(1.75,-1.75)
Top Overlay:
  lines w0.152: -2.705,-2.705 -2.705,2.705 2.705,2.705 2.705,-2.705 -2.705,-2.705
Keep-Out Layer:
  region: -2.445,-2.445 -2.445,2.445 2.445,2.445 2.445,-2.445
Mechanical 13:
  lines w0.025: -2.578,2.328 -2.328,2.578 ; -2.578,-2.578 -2.578,2.578 2.578,2.578 2.578,-2.578 -2.578,-2.578
Mechanical 15:
  region: 2.832,-2.832 -2.832,-2.832 -2.832,2.832 2.832,2.832
  lines w0.152: -2.832,-2.832 2.832,-2.832 2.832,2.832 -2.832,2.832 -2.832,-2.832
3D body "UFBGA64-5x5mm.step": height 0.36, standoff -0.25, extent -2.578,-2.578 2.578,2.578

## UFQFPN-48 [mil]
pads (49):
  rrect50% 32x12 smd paste+0 mask+0: 1(-136,108.27) 2(-136,88.58) 3(-136,68.9) 4(-136,49.21) 5(-136,29.53) 6(-136,9.84) 7(-136,-9.84) 8(-136,-29.53) 9(-136,-49.21) 10(-136,-68.9) 11(-136,-88.58) 12(-136,-108.27) 25(136,-108.27) 26(136,-88.58) 27(136,-68.9) 28(136,-49.21) 29(136,-29.53) 30(136,-9.84) 31(136,9.84) 32(136,29.53) 33(136,49.21) 34(136,68.9) 35(136,88.58) 36(136,108.27)
  rrect50% 12x32 smd paste+0 mask+0: 13(-108.27,-136) 14(-88.58,-136) 15(-68.9,-136) 16(-49.21,-136) 17(-29.53,-136) 18(-9.84,-136) 19(9.84,-136) 20(29.53,-136) 21(49.21,-136) 22(68.9,-136) 23(88.58,-136) 24(108.27,-136) 37(108.27,136) 38(88.58,136) 39(68.9,136) 40(49.21,136) 41(29.53,136) 42(9.84,136) 43(-9.84,136) 44(-29.53,136) 45(-49.21,136) 46(-68.9,136) 47(-88.58,136) 48(-108.27,136)
  rrect20% 200x200 smd paste-112 mask+0: 49(0,0)
Top Overlay:
  circle w10: c-165,110 r0.1
Top Paste:
  region: 108.06,-59.94 59.94,-59.94 59.94,-108.06 108.06,-108.06
  region: 108.06,-3.94 59.94,-3.94 59.94,-52.06 108.06,-52.06
  region: 108.06,52.06 59.94,52.06 59.94,3.94 108.06,3.94
  region: 108.06,108.06 59.94,108.06 59.94,59.94 108.06,59.94
  region: 52.06,-59.94 3.94,-59.94 3.94,-108.06 52.06,-108.06
  region: 52.06,-3.94 3.94,-3.94 3.94,-52.06 52.06,-52.06
  region: 52.06,52.06 3.94,52.06 3.94,3.94 52.06,3.94
  region: 52.06,108.06 3.94,108.06 3.94,59.94 52.06,59.94
  region: -3.94,-59.94 -52.06,-59.94 -52.06,-108.06 -3.94,-108.06
  region: -3.94,-3.94 -52.06,-3.94 -52.06,-52.06 -3.94,-52.06
  region: -3.94,52.06 -52.06,52.06 -52.06,3.94 -3.94,3.94
  region: -3.94,108.06 -52.06,108.06 -52.06,59.94 -3.94,59.94
  region: -59.94,-59.94 -108.06,-59.94 -108.06,-108.06 -59.94,-108.06
  region: -59.94,-3.94 -108.06,-3.94 -108.06,-52.06 -59.94,-52.06
  region: -59.94,52.06 -108.06,52.06 -108.06,3.94 -59.94,3.94
  region: -59.94,108.06 -108.06,108.06 -108.06,59.94 -59.94,59.94
Mechanical 13:
  lines w1: -140,90 -90,140 ; -140,-140 -140,140 140,140 140,-140 -140,-140 ; -140,-114.27 -140,-102.27 -140,-114.27 ; -140,-94.58 -140,-82.58 -140,-94.58 ; -140,-74.9 -140,-62.9 -140,-74.9 ; -140,-55.21 -140,-43.21 -140,-55.21 ; -140,-35.53 -140,-23.53 -140,-35.53 ; -140,-15.84 -140,-3.84 -140,-15.84 ; -140,3.84 -140,15.84 -140,3.84 ; -140,23.53 -140,35.53 -140,23.53 ; -140,43.21 -140,55.21 -140,43.21 ; -140,62.9 -140,74.9 -140,62.9 ; -140,82.58 -140,94.58 -140,82.58 ; -140,102.27 -140,114.27 -140,102.27 ; -114.27,-140 -102.27,-140 -114.27,-140 ; -114.27,140 -102.27,140 -114.27,140 ; -94.58,-140 -82.58,-140 -94.58,-140 ; -94.58,140 -82.58,140 -94.58,140 ; -74.9,-140 -62.9,-140 -74.9,-140 ; -74.9,140 -62.9,140 -74.9,140 ; -55.21,-140 -43.21,-140 -55.21,-140 ; -55.21,140 -43.21,140 -55.21,140 ; -35.53,-140 -23.53,-140 -35.53,-140 ; -35.53,140 -23.53,140 -35.53,140 ; -15.84,-140 -3.84,-140 -15.84,-140 ; -15.84,140 -3.84,140 -15.84,140 ; 3.84,-140 15.84,-140 3.84,-140 ; 3.84,140 15.84,140 3.84,140 ; 23.53,-140 35.53,-140 23.53,-140 ; 23.53,140 35.53,140 23.53,140 ; 43.21,-140 55.21,-140 43.21,-140 ; 43.21,140 55.21,140 43.21,140 ; 62.9,-140 74.9,-140 62.9,-140 ; 62.9,140 74.9,140 62.9,140 ; 82.58,-140 94.58,-140 82.58,-140 ; 82.58,140 94.58,140 82.58,140 ; 102.27,-140 114.27,-140 102.27,-140 ; 102.27,140 114.27,140 102.27,140 ; 140,-114.27 140,-102.27 140,-114.27 ; 140,-94.58 140,-82.58 140,-94.58 ; 140,-74.9 140,-62.9 140,-74.9 ; 140,-55.21 140,-43.21 140,-55.21 ; 140,-35.53 140,-23.53 140,-35.53 ; 140,-15.84 140,-3.84 140,-15.84 ; 140,3.84 140,15.84 140,3.84 ; 140,23.53 140,35.53 140,23.53 ; 140,43.21 140,55.21 140,43.21 ; 140,62.9 140,74.9 140,62.9 ; 140,82.58 140,94.58 140,82.58 ; 140,102.27 140,114.27 140,102.27
  text "*" at -132.5,93.11 h50
3D body "UFQFPN-48_7X7X0P55MM.step": height 24.09, standoff 0, extent -140,-140 140,140